# Altium footprint library BRKSWS01Lib.PcbLib: 1 footprints
Each footprint in its own frame and in the unit in brackets; x right, y up, seen from the top. Pads: shape width x height; smd on the part's side, far side on the other; paste and mask are expansions set on the pad; w line width, h text height; cw(c..) or ccw(c..) is an arc to the next point about the centre after c.
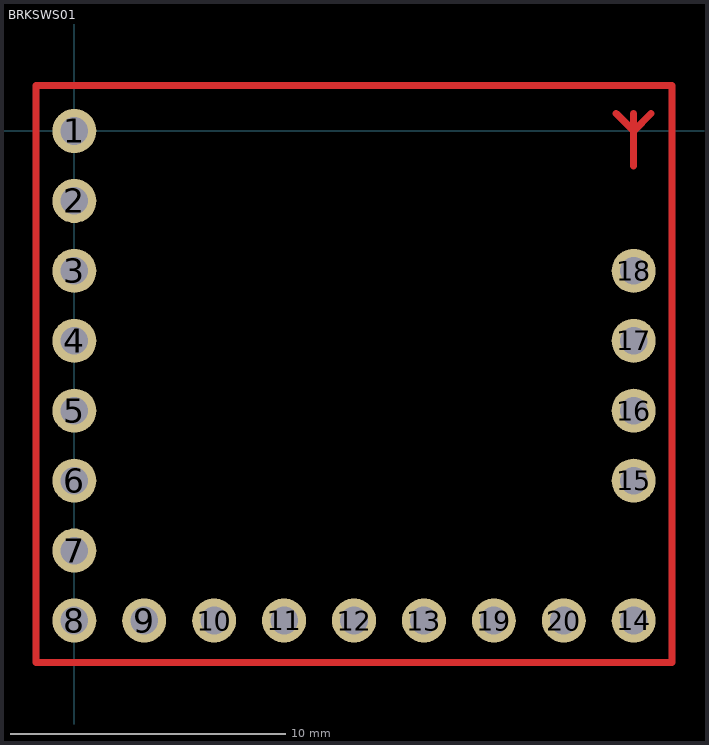
[diagram p0: the footprint, top view; thin cyan lines are the x and y axes]

## BRKSWS01 [mm] "Wisol WSSFM10R1 Module"
pads (20):
  round 1.6 hole 1: 1(0,0) 2(0,-2.54) 3(0,-5.08) 4(0,-7.62) 5(0,-10.16) 6(0,-12.7) 7(0,-15.24) 8(0,-17.78) 9(2.54,-17.78) 10(5.08,-17.78) 11(7.62,-17.78) 12(10.16,-17.78) 13(12.7,-17.78) 14(20.32,-17.78) 15(20.32,-12.7) 16(20.32,-10.16) 17(20.32,-7.62) 18(20.32,-5.08) 19(15.24,-17.78) 20(17.78,-17.78)
Top Layer:
  lines w0.254: 19.685,0.635 20.32,0 ; 20.32,0.635 20.32,-1.27 20.32,0 ; 20.32,0 20.955,0.635 20.32,0 ; -1.397,-19.304 21.717,-19.304 21.717,1.651 -1.397,1.651 -1.397,-19.304